# Altium schematic symbol library SCH - CONNECTORS - JST BM10B-SRSS-TB.Schlib: 1 symbol
Pins are listed as number, name and electrical type; pins without a type are passive.

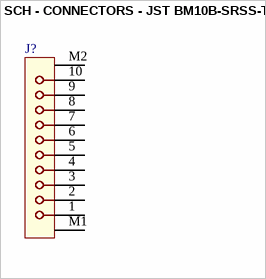
[diagram p0: symbol SCH - CONNECTORS - JST BM10B-SRSS-TB]

## SCH - CONNECTORS - JST BM10B-SRSS-TB
designator J?
footprint BM10B-SRSS-TB (JST Connector)
pins: 1, 2, 3, 4, 5, 6, 7, 8, 9, 10, M1, M2